# Altium schematic symbol library DM0255.SCHLIB: 7 symbols
Pins are listed as number, name and electrical type; pins without a type are passive.

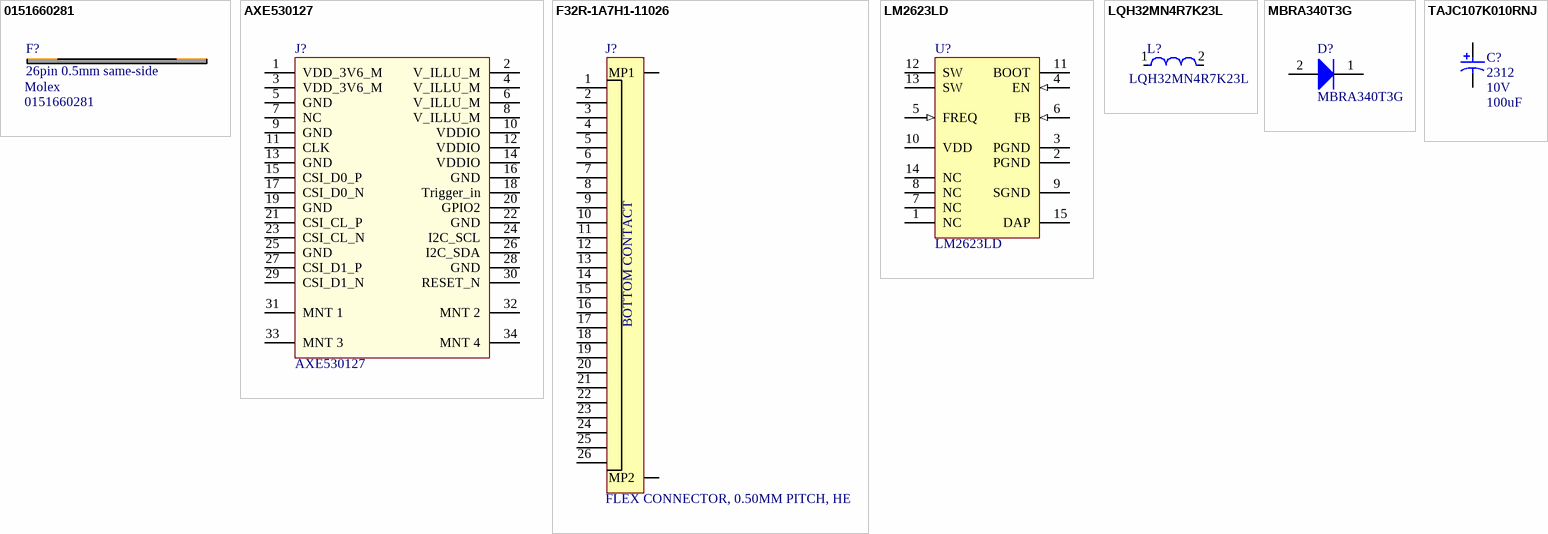
[diagram p0: symbols 0151660281 to TAJC107K010RNJ]

## 0151660281
designator F?, comment 26pin 0.5mm same-side  Manufacturer 1: Molex  Manufacturer Part Number 1: 0151660281  (mechanical)
CABLE FFC 26POS 0.50MM 6"; Number of Conductors: 26; Wire/Cable Type: Flat Flex; Pitch: 0.02inch; Supplier 1: Digi-Key; Stock 1: 118; Pricing 1: 1=2.21000, 10=2.01000, 25=1.88680, 50=1.80460, 100=1.72260, 250=1.55856, 500=1.43552, 1000=1.23045, 2500=1.14842 (USD); RoHS: Yes; Number of Pins: 26; Packaging: Bulk; Package Quantity: 1000; Length: 6inch; Cable Pitch: 0.5mm; Radiation Hardening: No; ComponentLink1URL: https://datasheet.ciiva.com/10989/0151660281-cable-10989152.pdf?src-supplier=Avnet; ComponentLink1Description: https://datasheet.ciiva.com/10989/0151660281-cable-10989152.pdf?src-supplier=Avnet; ComponentLink2URL: https://datasheet.ciiva.com/2944/151660051-sd-2944673.pdf?src-supplier=Digi-Key; ComponentLink2Description: https://datasheet.ciiva.com/2944/151660051-sd-2944673.pdf?src-supplier=Digi-Key; Supplier 2: Mouser; Supplier Part Number 1: WM11334-ND; Supplier Part Number 2: 538-15166-0281

## AXE530127
designator J?
Narrow Pitch Connector (Board to FPC) 0.4mm; Manufacturer 1: Panasonic; Number of Positions: 30; Connector Type: Socket; Pitch: 0.016inch; Mated Stacking Heights: 1mm; Supplier 1: Digi-Key; Manufacturer Part Number 1: AXE530127; RoHS: Yes; Category: Headers and Wire Housings; Stock 1: 21082; Pricing 1: 1=1,37000, 10=1,24800, 25=1,17120, 50=1,12020, 100=1,06940, 250=0,96752, 500=0,89114, 1000=0,76383, 2500=0,71291 (USD); Mount: Surface Mount; Number of Pins: 30; Contact Plating: Gold; Packaging: Tape and Reel; Number of Rows: 2; RoHS Compliant: Yes; ComponentLink1URL: http://www.farnell.com/datasheets/2643909.pdf?src-supplier=Farnell; ComponentLink1Description: http://www.farnell.com/datasheets/2643909.pdf?src-supplier=Farnell; ComponentLink2URL: http://www3.panasonic.biz/ac/e_download/control/connector/base-fpc/catalog/con_eng_a4s.pdf?src-supplier=Digi-Key; ComponentLink2Description: http://www3.panasonic.biz/ac/e_download/control/connector/base-fpc/catalog/con_eng_a4s.pdf?src-supplier=Digi-Key; Supplier Part Number 1: 255-5287-1-ND
footprint AXE530127
pins: 1 VDD_3V6_M, 2 V_ILLU_M, 3 VDD_3V6_M, 4 V_ILLU_M, 5 GND, 6 V_ILLU_M, 7 NC, 8 V_ILLU_M, 9 GND, 10 VDDIO, 11 CLK, 12 VDDIO, 13 GND, 14 VDDIO, 15 CSI_D0_P, 16 GND, 17 CSI_D0_N, 18 Trigger_in, 19 GND, 20 GPIO2, 21 CSI_CL_P, 22 GND, 23 CSI_CL_N, 24 I2C_SCL, 25 GND, 26 I2C_SDA, 27 CSI_D1_P, 28 GND, 29 CSI_D1_N, 30 RESET_N, 31 MNT 1, 32 MNT 2, 33 MNT 3, 34 MNT 4

## F32R-1A7H1-11026
designator J?, comment FLEX CONNECTOR, 0.50MM PITCH, HE
26 Position FFC, FPC Connector Contacts, Bottom 0.020" (0.50mm) Surface Mount, Right Angle; Manufacturer 1: Amphenol ICC (FCI); Manufacturer Part Number 1: F32R-1A7H1-11026; Number of Positions: 26; Voltage Rating: 50V; Current Rating: 500mA; Pitch: 0.02inch; Supplier 1: Digi-Key; RoHS: Yes; Category: Connectors; Pricing 1: 1=0.77, 10=0.721, 100=0.5529, 500=0.4808 (USD); Mount: Surface Mount; Contact Plating: Tin; Contact Material: Bronze; Min Operating Temperature: -40°C; Max Operating Temperature: 105°C; Packaging: Tape and Reel; Termination: Solder; Flammability Rating: UL94 V-0; ComponentLink1URL: https://cdn.amphenol-icc.com/media/wysiwyg/files/drawing/f32r-f32j.pdf; ComponentLink1Description: https://cdn.amphenol-icc.com/media/wysiwyg/files/drawing/f32r-f32j.pdf; Stock 1: 1709; Supplier Part Number 1: 609-F32R-1A7H1-11026CT-ND
footprint F32R-1A7H1-11026 (26pin Molex FFC 0.5mm Bottom)
pins: 1, 2, 3, 4, 5, 6, 7, 8, 9, 10, 11, 12, 13, 14, 15, 16, 17, 18, 19, 20, 21, 22, 23, 24, 25, 26, MP1, MP2
text: BOTTOM CONTACT

## LM2623LD
designator U?
General Purpose, Gated Oscillator Based, DC/DC Boost Converter, 14-pin LLP; Manufacturer: National Semiconductor; Manufacturer 1: Texas Instruments; PowerWise: N; CompType: MiscPower; PackageTopMarking: NS*UZXYTT*2623AB; PackageVersion: revA, Aug-2000; RoHS: N; ComponentLink2URL: http://www.national.com/pf/LM/LM2623.html; ComponentLink3URL: http://www.national.com/packaging/folders/lda14a.html; ComponentLink1Description: LM2623 Datasheet; PinCount: 14; PackageDescription: LLP, Plastic, Dual, 4 x 4 x 0.75mm Body, 14 Lead, 0.5mm Pitch; RevisionNote: Component URLs added; PackageReference: LDA14A; DatasheetVersion: Dec-2005; ComponentLink3Description: LDA14A Package Page; ComponentLink1URL: http://www.national.com/ds/LM/LM2623.pdf; ComponentLink2Description: LM2623 Web Page; Manufacturer Part Number 1: LM2623LD
footprint LDA14A (PSON, 14-Leads, Body 4x4mm, Pitch 0.5mm, NSC Recommended)
pins: 1 NC, 2 PGND (power), 3 PGND (power), 4 EN (in), 5 FREQ (in), 6 FB (in), 7 NC, 8 NC, 9 SGND (power), 10 VDD (power), 11 BOOT, 12 SW (oc), 13 SW (oc), 14 NC, 15 DAP (power)

## LQH32MN4R7K23L
designator L?
Wire Wound Ferrite Inductor for General Circuits 4.7μH ±10% 1.2Ω 270mA 1210; Manufacturer 1: Murata; Series Resistance: 1.2R; Test Frequency: 1MHz; Frequency: 31MHz; Shielding: Unshielded; Inductance: 4.7uH; Q Factor: 20; Case/Package: 1210; Min Operating Temperature: -25°C; Case Code (Metric): 3225; Height - Seated (Max): 0.087inch; Max DC Current: 270mA; Current Rating: 270mA; Case Code (Imperial): 1210; Tolerance: 10%; Length: 3.2mm; Width: 2.5mm; Number of Pins: 2; Weight: 0.000564oz; Packaging: Tape and Reel; Core Material: Ferrite; Height: 2mm; Termination: SMD/SMT; Self Resonant Frequency: 31MHz; DC Current: 270mA; Max Operating Temperature: 85°C; Radiation Hardening: No; Lead Free: Lead Free; Inductor Type: Wirewound; Rated Current-Max: 270mA; Mount: Surface Mount; Inductance Tolerance: 10%; Resistor Type: Wirewound; Military Standard: Not; Package Quantity: 1; REACH SVHC: No SVHC; Series: LQH32M; Depth: 2.7mm; DC Resistance (DCR): 1.2R; Manufacturer Part Number 1: LQH32MN4R7K23L
footprint FP-LQH32CH_23-MFG (Chip Inductor, 2-Leads, Body 2.40x2.00mm, IPC High Density)
pins: 1, 2

## MBRA340T3G
designator D?
Schottky Power Rectifier, 2-Pin SMA, Pb-Free, Tape and Reel; Manufacturer 1: On Semiconductor; IFSM Max (A): 100; Configuration: Single; PackageVersion: Rev. F, 11/2008; ComponentLink1URL: http://www.onsemi.com/; Packing: Tape and Reel; PackageReference: SMA-2-403D-02_F; DatasheetVersion: Rev. 6; ComponentLink3URL: http://www.onsemi.com/pub_link/Collateral/1SMA5913BT3-D.PDF; ComponentLink2Description: Datasheet; PackageDescription: 2-Pin Small Molded Package, J-Bend Lead, Body 2.605 x 4.315 mm; ComponentLink3Description: Package Specification; Manufacturer Part Number 1: MBRA340T3G; RoHS: TRUE; ComponentLink1Description: Manufacturer URL; ComponentLink2URL: http://www.onsemi.cn/pub_link/Collateral/MBRA340T3-D.PDF; Mounting Technology: Surface Mount
footprint ONSC-SMA-2-403D-02_F_V (Molded, 2-Leads, Body 4.32x2.6mm)
pins: 1 K, 2 A

## TAJC107K010RNJ
designator C?, comment Size Code: 2312  Rated DC Voltage (URdc): 10V  Capacitance: 100uF  (hidden comment: 100uF 2312)
Tantalum Capacitor, Polarized, Tantalum (dry/solid), 10V, 10% +Tol, 10% -Tol, 100uF, Surface Mount, 2312; Manufacturer 1: Kyocera AVX; Manufacturer Part Number 1: TAJC107K010RNJ; ESR (Equivalent Series Resistance): 1.2R; Leakage Current: 10uA; Tan Delta: 0.08; Reference Standard: CECC30801-005; Supplier 1: Digi-Key; RoHS: Yes; Category: Tantalum Capacitors; Stock 1: 2500; Pricing 1: 1=0,67000, 10=0,47300, 50=0,35780, 100=0,31160 (USD); Mount: Surface Mount; Number of Pins: 2; Dielectric Material: Tantalum; Package Shape: Rectangular; Terminal Finish: Nickel; Min Operating Temperature: -55°C; Max Operating Temperature: 125°C; JESD-609 Code: e3; Polarity: Polarized; Capacitor Type: Tantalum; Negative Tolerance: 10%; Package Style: SMTMeter; Packaging: Tape and Reel; Positive Tolerance: 10%; Termination: J BEND; Length: 6mm; Width: 3.2mm; Height: 2.6mm; REACH SVHC: Yes; RoHS Compliant: Yes; ComponentLink1URL: https://datasheet.ciiva.com:443/pdfs/VipMasterIC/IC/AVXC/AVXC-S-A0008794508/AVXC-S-A0008794508-1.pdf?src-supplier=IHS+Markit; ComponentLink1Description: https://datasheet.ciiva.com:443/pdfs/VipMasterIC/IC/AVXC/AVXC-S-A0008794508/AVXC-S-A0008794508-1.pdf?src-supplier=IHS+Markit; ComponentLink2URL: https://datasheet.ciiva.com/6186/13070-6186737.pdf?src-supplier=Farnell; ComponentLink2Description: https://datasheet.ciiva.com/6186/13070-6186737.pdf?src-supplier=Farnell; ComponentLink3URL: https://datasheet.ciiva.com/11793/0900766b80ccdc61-11793710.pdf?src-supplier=RSComponents; ComponentLink3Description: https://datasheet.ciiva.com/11793/0900766b80ccdc61-11793710.pdf?src-supplier=RSComponents; ComponentLink4URL: https://datasheet.ciiva.com/26341/559445-da-01-en-tacc-c-6-0-mm-x-3-2-mm-x-2-6-mm-100-uf-26341786.pdf?src-supplier=Conrad; ComponentLink4Description: https://datasheet.ciiva.com/26341/559445-da-01-en-tacc-c-6-0-mm-x-3-2-mm-x-2-6-mm-100-uf-26341786.pdf?src-supplier=Conrad; ComponentLink5URL: https://datasheet.ciiva.com/7720/taj-7720616.pdf?src-supplier=Element14; ComponentLink5Description: https://datasheet.ciiva.com/7720/taj-7720616.pdf?src-supplier=Element14; ComponentLink6URL: https://datasheet.ciiva.com/14608/70001050-14608635.pdf?src-supplier=Allied+Electronics; ComponentLink6Description: https://datasheet.ciiva.com/14608/70001050-14608635.pdf?src-supplier=Allied+Electronics; ComponentLink7URL: https://datasheet.ciiva.com/7720/taj-7720618.pdf?src-supplier=Element14; ComponentLink7Description: https://datasheet.ciiva.com/7720/taj-7720618.pdf?src-supplier=Element14; ComponentLink8URL: https://datasheet.ciiva.com/18710/taj-eng-18710871.pdf?src-supplier=Distrelec; ComponentLink8Description: https://datasheet.ciiva.com/18710/taj-eng-18710871.pdf?src-supplier=Distrelec; ComponentLink9URL: https://datasheet.ciiva.com/3004/taj-3004482.pdf?src-supplier=Avnet; ComponentLink9Description: https://datasheet.ciiva.com/3004/taj-3004482.pdf?src-supplier=Avnet; ComponentLink10URL: https://datasheet.ciiva.com/16486/taj-16486014.pdf?src-supplier=Avnet+Asia; ComponentLink10Description: https://datasheet.ciiva.com/16486/taj-16486014.pdf?src-supplier=Avnet+Asia; ComponentLink11URL: https://datasheet.ciiva.com/264/taj-264316.pdf?src-supplier=Digi-Key; ComponentLink11Description: https://datasheet.ciiva.com/264/taj-264316.pdf?src-supplier=Digi-Key; ComponentLink12URL: https://datasheet.ciiva.com/15163/getdatasheetpartid-87208-15163226.pdf?src-supplier=Verical; ComponentLink12Description: https://datasheet.ciiva.com/15163/getdatasheetpartid-87208-15163226.pdf?src-supplier=Verical; ComponentLink13URL: https://datasheet.ciiva.com/7720/13070-7720615.pdf?src-supplier=Element14; ComponentLink13Description: https://datasheet.ciiva.com/7720/13070-7720615.pdf?src-supplier=Element14; ComponentLink14URL: https://datasheet.ciiva.com/14590/70001050-14590206.pdf?src-supplier=Allied+Electronics; ComponentLink14Description: https://datasheet.ciiva.com/14590/70001050-14590206.pdf?src-supplier=Allied+Electronics; ComponentLink15URL: https://datasheet.ciiva.com/11226/taj-11226030.pdf?src-supplier=Avnet; ComponentLink15Description: https://datasheet.ciiva.com/11226/taj-11226030.pdf?src-supplier=Avnet; ComponentLink16URL: https://datasheet.ciiva.com/264/taj-264317.pdf?src-supplier=Digi-Key; ComponentLink16Description: https://datasheet.ciiva.com/264/taj-264317.pdf?src-supplier=Digi-Key; ComponentLink17URL: https://datasheet.ciiva.com/16350/taj-16350362.pdf?src-supplier=Future+Electronics; ComponentLink17Description: https://datasheet.ciiva.com/16350/taj-16350362.pdf?src-supplier=Future+Electronics; ComponentLink18URL: https://datasheet.ciiva.com/7720/1680476-7720617.pdf?src-supplier=Element14; ComponentLink18Description: https://datasheet.ciiva.com/7720/1680476-7720617.pdf?src-supplier=Element14; ComponentLink19URL: https://datasheet.ciiva.com/264/taj-264318.pdf?src-supplier=Digi-Key; ComponentLink19Description: https://datasheet.ciiva.com/264/taj-264318.pdf?src-supplier=Digi-Key; ComponentLink20URL: https://datasheet.ciiva.com/7720/taj-7720830.pdf?src-supplier=Element14; ComponentLink20Description: https://datasheet.ciiva.com/7720/taj-7720830.pdf?src-supplier=Element14; Supplier Part Number 1: 478-1704-1-ND
footprint AVX-TAJ-C-2_L (Molded Capacitor, 2-Leads, Body 6.2x3.4mm, IPC High Density)
footprint AVX-TAJ-C-2_M (Molded Capacitor, 2-Leads, Body 6.2x3.4mm, IPC Low Density)
footprint AVX-TAJ-C-2_N (Molded Capacitor, 2-Leads, Body 6.2x3.4mm, IPC Medium Density)
pins: 1, 2